# Altium schematic symbol library ATSAM3N48LQFP.Schlib: 1 symbol
Pins are listed as number, name and electrical type; pins without a type are passive.

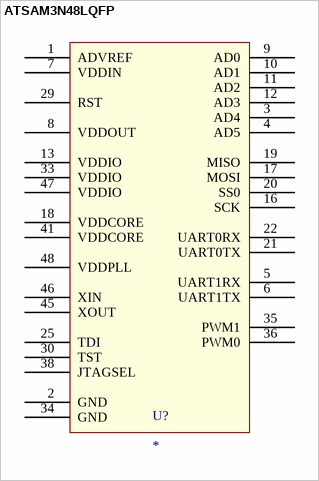
[diagram p0: symbol ATSAM3N48LQFP]

## ATSAM3N48LQFP
designator U?
IC Atmel Cortex-M3
pins: 1 ADVREF, 2 GND, 3 AD4, 4 AD5, 5 UART1RX, 6 UART1TX, 7 VDDIN, 8 VDDOUT, 9 AD0, 10 AD1, 11 AD2, 12 AD3, 13 VDDIO, 16 SCK, 17 MOSI, 18 VDDCORE, 19 MISO, 20 SS0, 21 UART0TX, 22 UART0RX, 25 TDI, 29 RST, 30 TST, 33 VDDIO, 34 GND, 35 PWM1, 36 PWM0, 38 JTAGSEL, 41 VDDCORE, 45 XOUT, 46 XIN, 47 VDDIO, 48 VDDPLL